# Altium schematic symbol library TPS54202DDCR.SchLib: 1 symbol
Pins are listed as number, name and electrical type; pins without a type are passive.

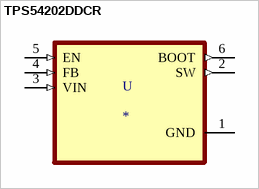
[diagram p0: symbol TPS54202DDCR]

## TPS54202DDCR
designator U
4.5V to 28V Input, 2A Output, EMI Friendly Synchronous Step-Down Converter 6-SOT-23-THIN -40 to 125; MF: Texas Instruments; MP: TPS54202DDCR; Price: None; Value: *; Texas_Instruments-Purchase-URL: https://snapeda.com/shop?store=Texas+Instruments&id=565860; Mouser-Purchase-URL: https://snapeda.com/shop?store=Mouser&id=565860; Package: SOT-23-THN-6 Texas Instruments; SnapEDA_Link: https://www.snapeda.com/parts/TPS54202DDCR/Texas%20Instruments/view-part/565860/?ref=snap; Availability: Good; DigiKey-Purchase-URL: https://snapeda.com/shop?store=DigiKey&id=565860
footprint SOT95P280X110-6N
pins: 1 GND (power), 2 SW (out), 3 VIN (in), 4 FB (in), 5 EN (in), 6 BOOT (out)